# Altium footprint library SOT.PcbLib: 14 footprints
Each footprint in its own frame and in the unit in brackets; x right, y up, seen from the top. Pads: shape width x height; smd on the part's side, far side on the other; paste and mask are expansions set on the pad; w line width, h text height; cw(c..) or ccw(c..) is an arc to the next point about the centre after c.
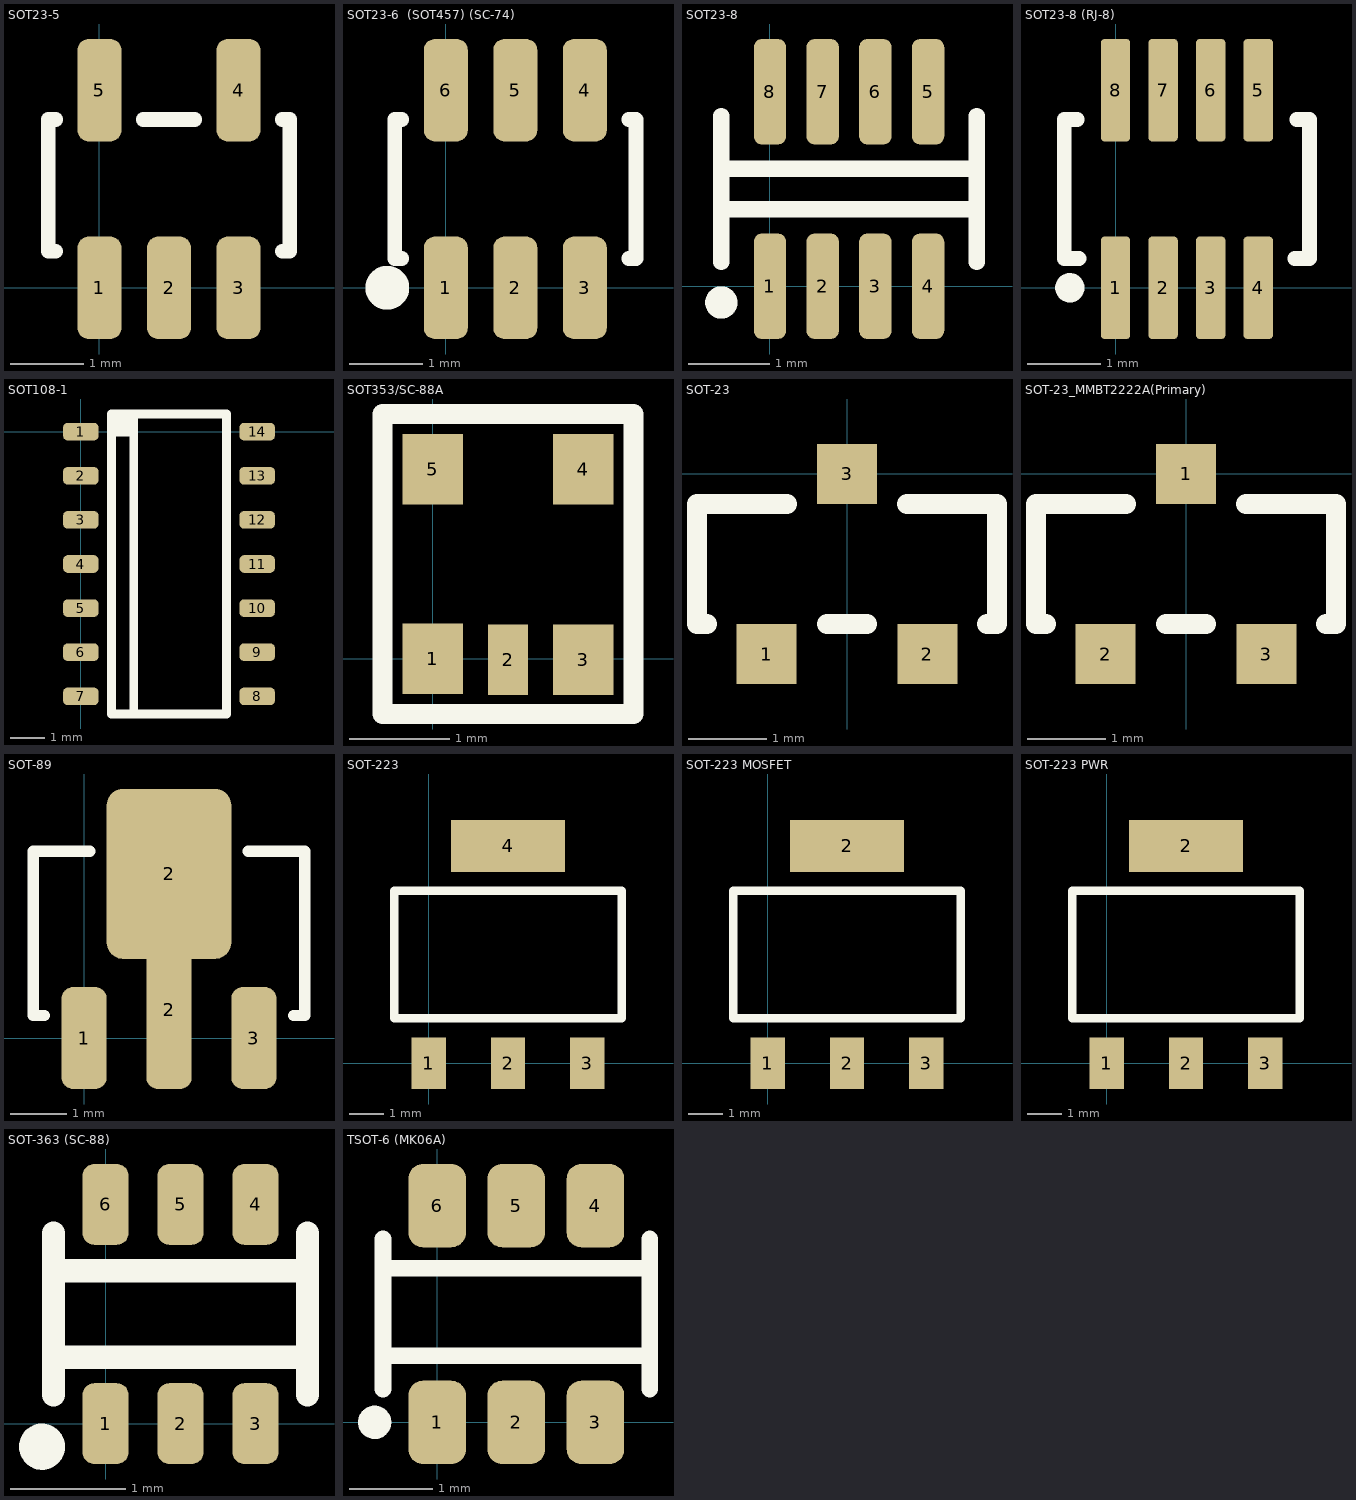
[diagram p0: the footprints below, top view; thin cyan lines are the x and y axes]

## SOT23-5 [mm]
pads (5):
  rrect50% 0.6x1.4 smd: 1(0,0) 2(0.95,0) 3(1.9,0) 4(1.9,2.7) 5(0,2.7)
Top Overlay:
  lines w0.2: -0.6,0.5 -0.7,0.5 -0.7,2.3 -0.6,2.3 ; 0.6,2.3 1.3,2.3 ; 2.5,0.5 2.6,0.5 2.6,2.3 2.5,2.3
Top Assembly:
  text ".Designator" at -2.599,1.167 h0.7
3D body "User Library-SOT-23-5.STEP": height 1.46, standoff 0, extent -0.55,-0.14 2.45,2.86

## SOT23-6  (SOT457) (SC-74) [mm]
pads (6):
  rrect50% 0.6x1.4 smd: 1(0,0) 2(0.95,0) 3(1.9,0) 4(1.9,2.7) 5(0.95,2.7) 6(0,2.7)
Top Overlay:
  circle w0.4: c-0.8,0 r0.1
  lines w0.2: -0.7,0.4 -0.7,2.3 -0.6,2.3 ; -0.675,0.4 -0.6,0.4 ; 2.5,0.4 2.575,0.4 ; 2.5,2.3 2.6,2.3 2.6,0.4
Top Assembly:
  text ".Designator" at -2.549,1.117 h0.7
3D body "SOT23-6.STEP": height 1.3, standoff 0, extent -0.55,-0.15 2.45,2.85

## SOT23-8 [mm]
pads (8):
  rrect50% 0.4x1.3 smd: 1(0,0) 2(0.65,0) 3(1.3,0) 4(1.95,0) 5(1.95,2.4) 6(1.3,2.4) 7(0.65,2.4) 8(0,2.4)
Top Overlay:
  circle w0.2: c-0.6,-0.2 r0.1
  lines w0.2: -0.6,0.3 -0.6,2.1 ; -0.6,0.95 2.55,0.95 ; -0.6,1.45 2.55,1.45 ; 2.55,0.3 2.55,2.1
Top Assembly:
  text ".Designator" at -2.499,-1.633 h0.7

## SOT23-8 (RJ-8) [mm]
pads (8):
  rrect25% 0.4x1.4 smd: 1(0,0) 2(0.65,0) 3(1.3,0) 4(1.95,0) 5(1.95,2.7) 6(1.3,2.7) 7(0.65,2.7) 8(0,2.7)
Top Overlay:
  circle w0.2: c-0.625,0 r0.1
  lines w0.2: -0.7,0.4 -0.7,2.3 -0.525,2.3 ; -0.675,0.4 -0.5,0.4 ; 2.45,0.4 2.625,0.4 ; 2.475,2.3 2.65,2.3 2.65,0.4
Top Assembly:
  text ".Designator" at -4.023,1.017 h1
3D body "User Library-sot238.STEP": height 1.2, standoff 0, extent -0.47,-0.05 2.47,2.75

## SOT108-1 [mil]
pads (14):
  rrect50% 40x20 smd: 1(0,0) 2(0,-50) 3(0,-100) 4(0,-150) 5(0,-200) 6(0,-250) 7(0,-300) 8(200,-300) 9(200,-250) 10(200,-200) 11(200,-150) 12(200,-100) 13(200,-50) 14(200,0)
Top Overlay:
  region: 60,20 35,20 35,-5 60,-5
  lines w10: 60,-320 60,20 ; 35,-320 35,20 165,20 165,-320 35,-320
Top Assembly:
  text ".Designator" at 123.36,-346.39 h39.37

## SOT353/SC-88A [mm]
pads (5):
  rect 0.6x0.7 smd: 1(0,0) 3(1.5,-0.01) 4(1.5,1.89) 5(0,1.89)
  rect 0.4x0.7 smd: 2(0.75,-0.01)
Top Overlay:
  lines w0.2: -0.5,-0.55 -0.5,2.44 2,2.44 2,-0.55 -0.5,-0.55
Top Assembly:
  text ".Designator" at -2.699,0.867 h0.7

## SOT-23 [mil]
pads (3):
  rect 30x30 smd: 1(-40.16,-90.16) 2(40.16,-90.16) 3(0,0)
Top Overlay:
  lines w10: -70,-75 -75,-75 -75,-15 -30,-15 ; -10,-75 10,-75 ; 30,-15 75,-15 75,-75 70,-75
Top Assembly:
  text ".Designator" at -137.75,-52.49 h27.56
3D body "SW3DPS-SOT-23-DEFAULT.STEP": height 43.31, standoff 0, extent -58.66,-94.49 59.45,3.94

## SOT-23_MMBT2222A(Primary) [mil]
pads (3):
  rect 30x30 smd: 1(0,0) 2(-40.16,-90.16) 3(40.16,-90.16)
Top Overlay:
  lines w10: -70,-75 -75,-75 -75,-15 -30,-15 ; -10,-75 10,-75 ; 30,-15 75,-15 75,-75 70,-75
Top Assembly:
  text ".Designator" at -137.75,-52.49 h27.56
3D body "SW3DPS-SOT-23-DEFAULT.STEP": height 43.31, standoff 0, extent -58.86,-94.09 59.25,4.33

## SOT-89 [mm]
pads (4):
  rrect50% 0.8x1.8 smd: 1(0,0) 3(3,0)
  rrect50% 0.8x2.8 smd: 2(1.5,0.5)
  rrect25% 2.2x3 smd: 2(1.5,2.9)
Top Overlay:
  lines w0.2: -0.7,0.4 -0.9,0.4 -0.9,3.3 0.1,3.3 ; 2.9,3.3 3.9,3.3 3.9,0.4 3.7,0.4
Top Assembly:
  text ".Designator" at -3.498,1.517 h1
3D body "SW3dPS-SOT89.STEP": height 1.61, standoff 0, extent -0.8,-0.4 3.8,3.85

## SOT-223 [mm]
pads (4):
  rect 1x1.5 smd: 1(0,0) 2(2.3,0) 3(4.6,0)
  rect 3.3x1.5 smd: 4(2.3,6.3)
Top Overlay:
  lines w0.254: -1,1.3 -1,5 5.6,5 5.6,1.3 -1,1.3
Top Assembly:
  text ".Designator" at -2.698,2.767 h1
3D body "SW3dPS-sot-223.STEP": height 1.64, standoff -0.04, extent -0.945,-0.286 5.555,6.646

## SOT-223 MOSFET [mm]
pads (4):
  rect 1x1.5 smd: 1(0,0) 2(2.3,0) 3(4.6,0)
  rect 3.3x1.5 smd: 2(2.3,6.3)
Top Overlay:
  lines w0.254: -1,1.3 -1,5 5.6,5 5.6,1.3 -1,1.3
Top Assembly:
  text ".Designator" at -2.698,2.867 h1
3D body "SW3dPS-sot-223.STEP": height 1.64, standoff -0.04, extent -0.945,-0.286 5.555,6.646

## SOT-223 PWR [mm]
pads (4):
  rect 1x1.5 smd: 1(0,0) 2(2.3,0) 3(4.6,0)
  rect 3.3x1.5 smd: 2(2.3,6.3)
Top Overlay:
  lines w0.254: -1,1.3 -1,5 5.6,5 5.6,1.3 -1,1.3
Top Assembly:
  text ".Designator" at -2.698,2.867 h1
3D body "SW3dPS-sot-223.STEP": height 1.64, standoff -0.04, extent -0.945,-0.286 5.555,6.646

## SOT-363 (SC-88) [mm]
pads (6):
  rrect50% 0.4x0.7 smd: 1(0,0) 2(0.65,0) 3(1.3,0) 4(1.3,1.9) 5(0.65,1.9) 6(0,1.9)
Top Overlay:
  circle w0.2: c-0.55,-0.2 r0.1
  lines w0.2: -0.45,0.25 -0.45,1.65 ; -0.45,0.575 1.75,0.575 ; -0.45,1.325 1.75,1.325 ; 1.75,0.25 1.75,1.65
Top Assembly:
  text ".Designator" at -2.799,-1.433 h0.7
3D body "User Library-sot363.STEP": height 1, standoff 0, extent -0.405,-0.19 1.695,2.11

## TSOT-6 (MK06A) [mm]
pads (6):
  rrect50% 0.69x1 smd: 1(0,0) 2(0.95,0) 3(1.9,0) 4(1.9,2.6) 5(0.95,2.6) 6(0,2.6)
Top Overlay:
  circle w0.2: c-0.75,0 r0.1
  lines w0.2: -0.65,0.4 -0.65,2.2 ; -0.65,0.8 2.45,0.8 ; -0.65,1.85 2.45,1.85 ; 2.55,0.4 2.55,2.2
Top Assembly:
  text ".Designator" at -2.499,-1.533 h0.7
3D body "SW3dPS-TSOT-23.STEP": height 0.86, standoff 0, extent -0.55,-0.11 2.45,2.7